# Altium schematic symbol library Diodes.SchLib: 6 symbols
Pins are listed as number, name and electrical type; pins without a type are passive.

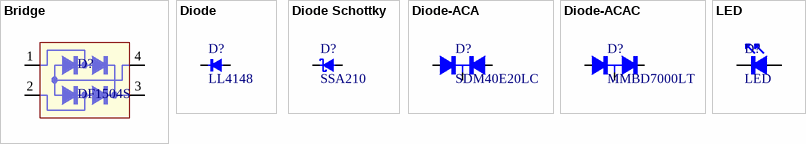
[diagram p0: symbols Bridge to LED]

## Bridge
designator D?, comment DF1504S
Bridge rectifier; Manufacturer: Diode; Part number: *; Unit price: *; Value: DF1504S
footprint SMD4-Gull (4-SMD, Gull wing)
pins: 1 AC, 2 AC, 3 +, 4 -

## Diode
designator D?, comment LL4148
General Purpose Diode Rectifier; Manufacturer: *; Part number: *; Value: LL4148; Unit price: 0.1
footprint SOD-80C (SOD-80C Package)
footprint SMB (SMB, DO-214AA -  Package)
footprint DO35-30 (DO35 - TH DIODE - Package)
footprint SMC (SMB, DO-214AB -  Package)
footprint SMA (SMA, DO-214AC -  Package)
footprint DO-27/DO-201AD (DO-27/DO-201AD - TH DIODE - Package)
footprint SOD-923 (SOD923 SOD-923)
footprint DO-41 (DO-41 / DO-204 - TH DIODE - Package)
pins: 1, 2

## Diode Schottky
designator D?, comment SSA210
Diode Schottky; Manufacturer: *; Part number: *; Value: SSA210; Unit price: 0.4
footprint SOD-80C (SOD-80C Package)
footprint SMB (SMB, DO-214AA -  Package)
footprint SOD123
footprint SOD123F
footprint SMC (SMB, DO-214AB -  Package)
footprint SOD323 (SOD323,  SC-76 (3.75mm x 0.65mm))
footprint SOD-923 (SOD923 SOD-923)
pins: 1, 2

## Diode-ACA
designator D?, comment SDM40E20LC
Diode - Array - Common cathode; Manufacturer: *; Part number: *; Unit price: *; Value: SDM40E20LC
footprint SOT23-3 (SOT23-3 Package)
pins: 1, 2, 3

## Diode-ACAC
designator D?, comment MMBD7000LT
Diode - Array - 1 pair series; Manufacturer: *; Part number: *; Unit price: *; Value: MMBD7000LT
footprint SOT23-3 (SOT23-3 Package)
pins: 1, 2, 3

## LED
designator D?
LED - Light-Emitting Diode; Manufacturer: *; Part number: *; Unit price: *; Value: LED
footprint LED-0805 (SMT LED DIODE 0805)
footprint LED-1210 (SMT LED DIODE 1210)
footprint LED-03MM (SMT LED DIODE 3 mm)
footprint LED-05MM (SMT LED DIODE 5 mm)
pins: 1, 2